# Altium integrated library PG151101S11.IntLib: 1 symbol
Pins are listed as number, name and electrical type; pins without a type are passive.

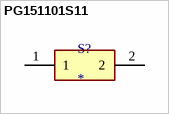
[diagram p0: symbol PG151101S11]

## PG151101S11
designator S?
MF: Kailh; MP: PG151101S11; SnapEDA_Link: https://www.snapeda.com/parts/PG151101S11/Kailh/view-part/?ref=snap; Package: Package; Value: *; Check_prices: https://www.snapeda.com/parts/PG151101S11/Kailh/view-part/?ref=eda
footprint SW_PG151101S11
pins: 1, 2